# Altium schematic symbol library NCV8705MT33TCG.SchLib: 1 symbol
Pins are listed as number, name and electrical type; pins without a type are passive.

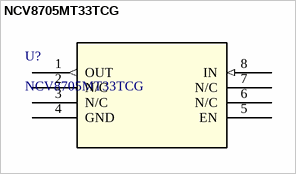
[diagram p0: symbol NCV8705MT33TCG]

## NCV8705MT33TCG
designator U?
Linear Voltage Regulator IC Positive Fixed 1 Output 500mA 6-WDFN (2x2); Manufacturer_Name: onsemi; Copyright: Copyright (C) 2025 Ultra Librarian. All rights reserved.; MPN: NCV8705MT33TCG; RefDes: RefDes; Type: Type
footprint WDFN6_2X2_ONS
pins: 1 OUT (out), 2 N/C, 3 N/C, 4 GND (power), 5 EN, 6 N/C, 7 N/C, 8 IN (in)